# EAGLE library part DMN63D8LDW (library diodes_inc)
Dual Nch-MOSFET
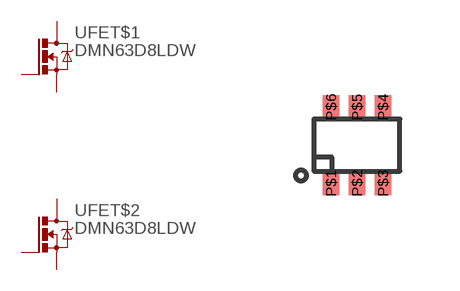
[diagram p0: symbol with the pads of SOT363; footprint SOT363]

Designator prefix -; gates FET$1=MOSFET-N FET$2=MOSFET-N

## DMN63D8LDW  [SOT363]
P$1  FET$1:S  pas
P$2  FET$1:G  pas
P$3  FET$2:D  pas
P$4  FET$2:S  pas
P$5  FET$2:G  pas
P$6  FET$1:D  pas

## Footprint SOT363 (pad centres in mm)
SOT363 Please see AP02002 at http://www.diodes.com /datasheets/ap02002.pdf for latest version.
smd 0.42 x 0.6: P$1 -0.65,-0.95; P$2 0,-0.95; P$3 0.65,-0.95; P$4 0.65,0.95; P$5 0,0.95; P$6 -0.65,0.95